# Altium integrated library ADS1113BQDGSRQ1.IntLib: 1 symbol
Pins are listed as number, name and electrical type; pins without a type are passive.

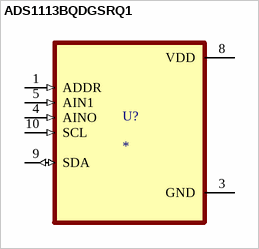
[diagram p0: symbol ADS1113BQDGSRQ1]

## ADS1113BQDGSRQ1
designator U?
MP: ADS1113BQDGSRQ1; Package: None; Price: None; Value: *; Availability: Unavailable
footprint SOP50P490X110-10N
pins: 1 ADDR (in), 3 GND (power), 4 AINO (in), 5 AIN1 (in), 8 VDD (power), 9 SDA (io), 10 SCL (in)